# Altium schematic symbol library Inductors_Capacitors.SchLib: 2 symbols
Pins are listed as number, name and electrical type; pins without a type are passive.

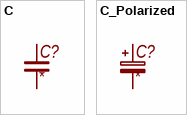
[diagram p0: symbols C to C_Polarized]

## C
designator C?
Unpolarized capacitor; Value: *
footprint CAPC0603(1608)
footprint CAPC0805(2012)
footprint CAPC1206(3216)
footprint CAPC1210(3225)
footprint CAPD-5MM
footprint CAPF-2.5MM
footprint CAPF-5.0MM
pins: 1, 2

## C_Polarized
designator C?
Polarized capacitor; Value: *
footprint CAPCASE-C
footprint CAPCASE-D
footprint CAPR-D5.0-P2.0
footprint CAPR-D5.0-P2.0-RA
footprint CAPR-D6.3-P2.5
footprint CAPR-D6.3-P2.5-RA
footprint CAPR-D10-P5.0
footprint CAPR-D12.5-P5.0-RA
footprint CAPE-A
footprint CAPE-B
footprint CAPE-C
footprint CAPE-D
footprint CAPE-E
footprint CAPE-F
footprint CAPE-G
footprint CAPR-D18-P7.5
pins: 1, 2